# EAGLE library part LEVEL_SHIFTER_4_CHAN (library Dal_V2)
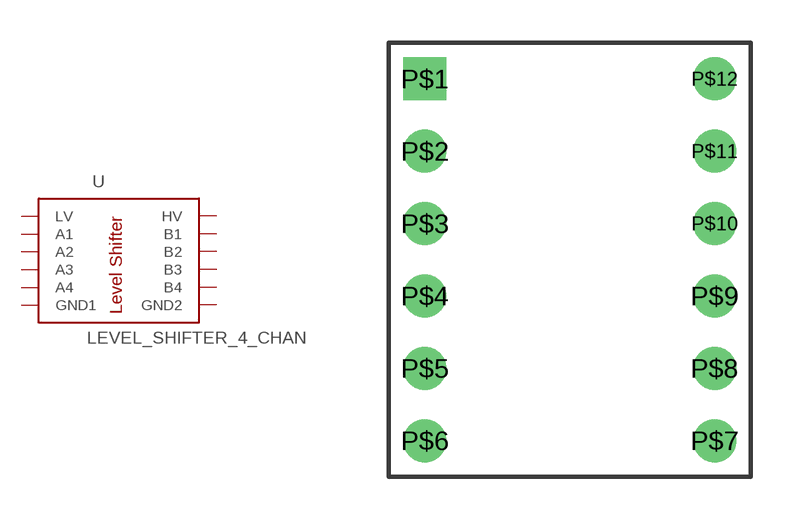
[diagram p11: symbol with the pads of MODULE_DIP_2X6_400; footprint MODULE_DIP_2X6_400]

Designator prefix -

## LEVEL_SHIFTER_4_CHANADAFRUIT  [MODULE_DIP_2X6_400]
P$1  LV  pas
P$2  A1  pas
P$3  A2  pas
P$4  A3  pas
P$5  A4  pas
P$6  GND1  pas
P$7  GND2  pas
P$8  B4  pas
P$9  B3  pas
P$10  B2  pas
P$11  B1  pas
P$12  HV  pas

## LEVEL_SHIFTER_4_CHANAMAZON  [MODULE_DIP_2X6_400]
P$1  A1  pas
P$2  A2  pas
P$3  LV  pas
P$4  GND1  pas
P$5  A3  pas
P$6  A4  pas
P$7  B4  pas
P$8  B3  pas
P$9  GND2  pas
P$10  HV  pas
P$11  B2  pas
P$12  B1  pas

## Footprint MODULE_DIP_2X6_400 (pad centres in mm)
drill 1 square: P$1 0,0
drill 1: P$2 0,-2.54; P$3 0,-5.08; P$4 0,-7.62; P$5 0,-10.16; P$6 0,-12.7; P$7 10.16,-12.7; P$8 10.16,-10.16; P$9 10.16,-7.62; P$10 10.16,-5.08; P$11 10.16,-2.54; P$12 10.16,0